# Altium schematic symbol library IRF7832-SO8.SchLib: 1 symbol
Pins are listed as number, name and electrical type; pins without a type are passive.

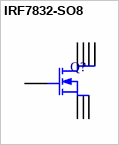
[diagram p0: symbol IRF7832-SO8]

## IRF7832-SO8
designator Q?  (value not drawn)
pins: 1 S, 2 S, 3 S, 4 G, 5 D, 6 D, 7 D, 8 D